# Altium footprint library PcbLibDevices.PcbLib: 21 footprints (part 1 of 2)
Each footprint in its own frame and in the unit in brackets; x right, y up, seen from the top. Pads: shape width x height; smd on the part's side, far side on the other; paste and mask are expansions set on the pad; w line width, h text height; cw(c..) or ccw(c..) is an arc to the next point about the centre after c.
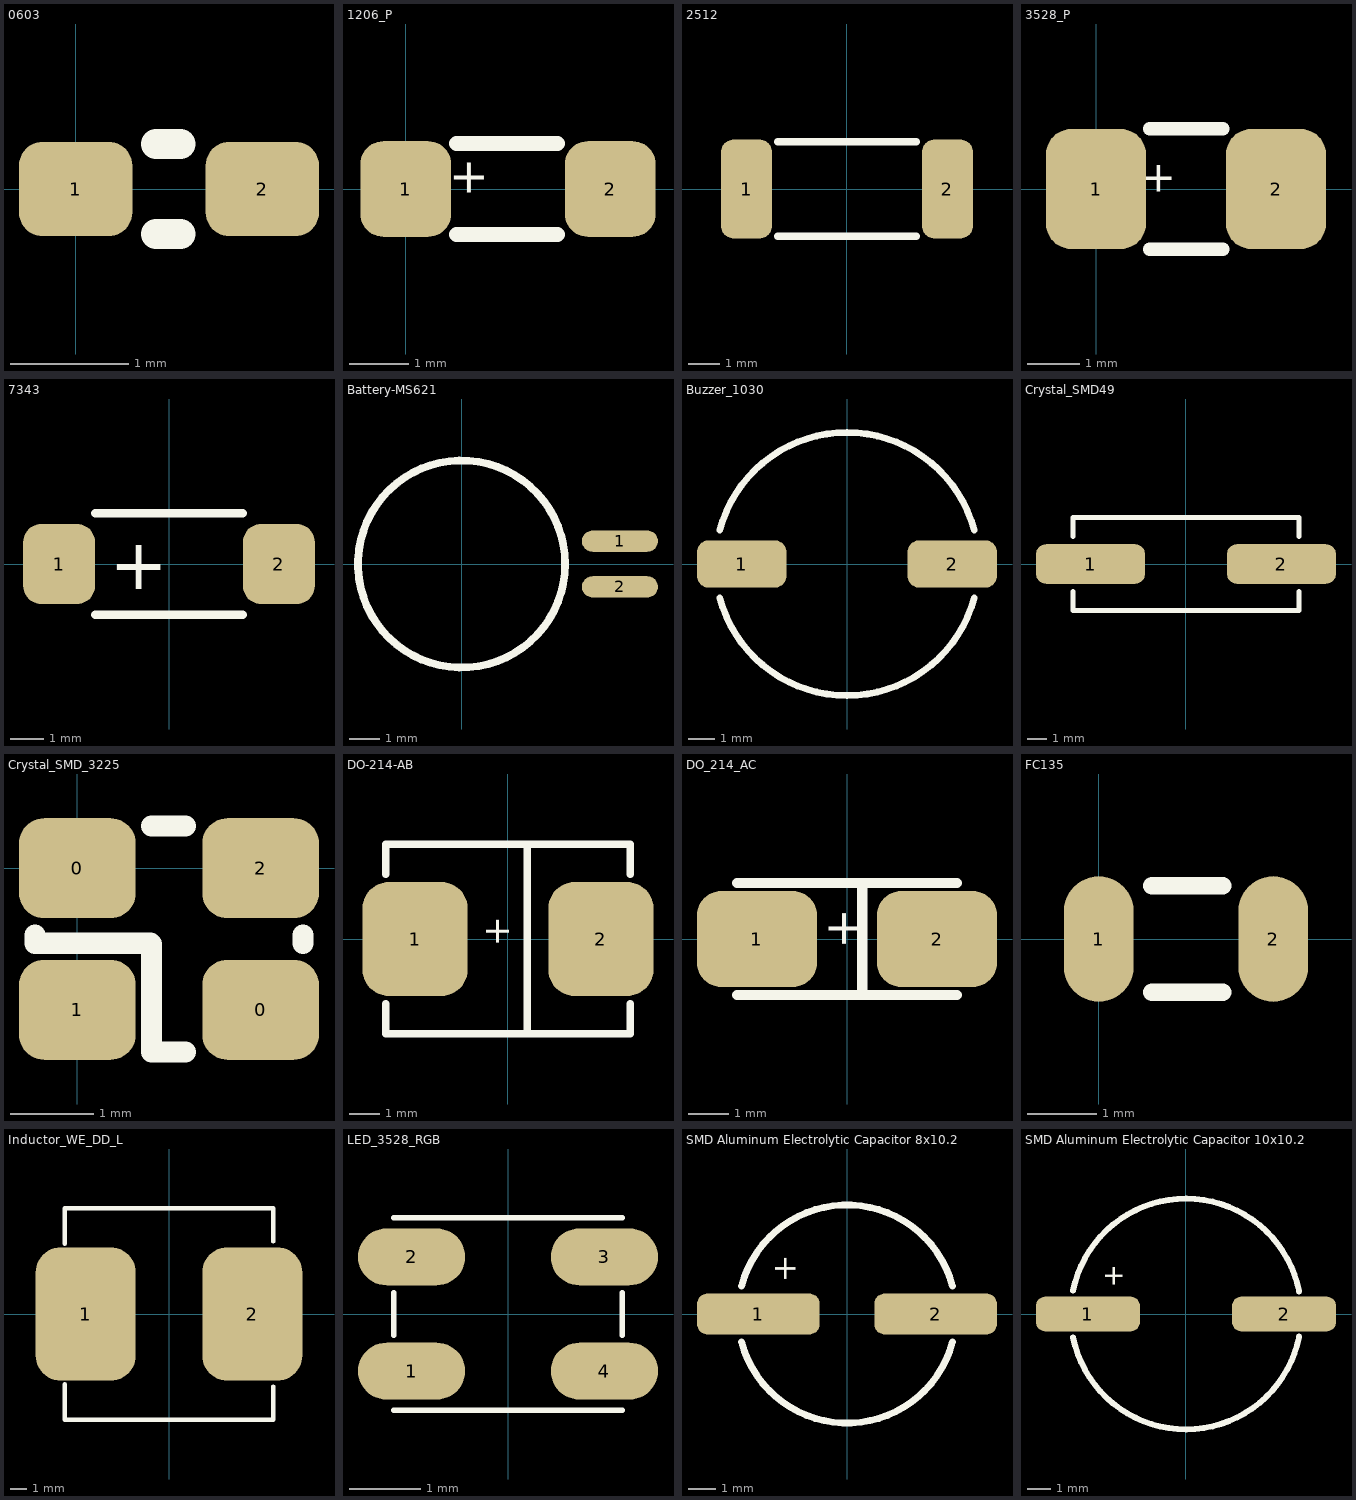
[diagram p0: the footprints below, top view; thin cyan lines are the x and y axes]

## 0603 [mm]
pads (2):
  rrect50% 0.96x0.8 smd: 1(0,0) 2(1.58,0)
Top Overlay:
  lines w0.254: 0.68,-0.381 0.889,-0.381 ; 0.68,0.381 0.889,0.381
3D body: height 1, standoff 0, extent 1.298,-0.381 1.679,0.381
3D body: height 1, standoff 0, extent 0.282,-0.381 1.298,0.381
3D body: height 1, standoff 0, extent -0.099,-0.381 0.282,0.381

## 1206_P [mm]
pads (2):
  rrect50% 1.52x1.6 smd: 1(0,0) 2(3.42,0)
Top Overlay:
  lines w0.254: 0.85,-0.762 2.54,-0.762 ; 0.85,0.762 2.54,0.762
  text "+" at 1.397,-0.254 h1
3D body: height 1.2, standoff 0, extent 0.567,-0.889 2.853,0.889
3D body: height 1.2, standoff 0, extent 0.059,-0.889 0.567,0.889
3D body: height 1.2, standoff 0, extent 2.853,-0.889 3.361,0.889

## 2512 [mm]
pads (2):
  rrect50% 1.65x3.2 smd: 1(-3.24,0) 2(3.24,0)
Top Overlay:
  lines w0.254: -2.224,-1.524 2.221,-1.524 ; -2.224,1.524 2.221,1.524
3D body "CircuitWorks-RESISTOR 2512.step": height 0.58, standoff -0.03, extent -3.175,-1.63 3.175,1.63

## 3528_P [mm]
pads (2):
  rrect50% 1.9x2.28 smd: 1(0,0) 2(3.42,0)
Top Overlay:
  lines w0.254: 1.016,-1.143 2.413,-1.143 ; 1.016,1.143 2.413,1.143
  text "+" at 1.524,-0.254 h1
3D body: height 1.9, standoff 0, extent 0.567,-1.397 2.853,1.397
3D body: height 1.9, standoff 0, extent -0.068,-1.397 0.567,1.397
3D body: height 1.9, standoff 0, extent 2.853,-1.397 3.488,1.397

## 7343 [mm]
pads (2):
  rrect50% 2.16x2.41 smd: 1(-3.305,0) 2(3.305,0)
Top Overlay:
  lines w0.254: -2.224,-1.524 2.221,-1.524 ; -2.224,1.524 2.221,1.524
  text "+" at -1.778,-0.762 h1.52
3D body "User Library-AVX_E_CASE.step": height 4.2, standoff 0, extent -3.7,-2.225 3.7,2.225

## Battery-MS621 [mm]
pads (2):
  oval 2.5x0.7 smd: 1(5.2,0.75) 2(5.2,-0.75)
Top Overlay:
  circle w0.254: c0,0 r3.4
3D body "User Library-ms621fe.STEP": height 2.65, standoff -0.05, extent -3.331,-3.371 5.969,3.429

## Buzzer_1030 [mm]
pads (2):
  rrect50% 3.4x1.8 smd: 1(-4,0) 2(4,0)
Top Overlay:
  lines w0.254: -4.83,-1.294 ccw(c0,0) 4.83,-1.294 ; -4.83,1.294 cw(c0,0) 4.83,1.294
3D body "Buzzer1030.stp": height 3.1, standoff 0, extent -5.539,-4.92 5.461,5.08

## Crystal_SMD49 [mm]
pads (2):
  rrect50% 5.5x2 smd: 1(-4.813,0) 2(4.814,0)
Top Overlay:
  lines w0.254: -5.7,-1.397 -5.7,-2.35 5.7,-2.35 5.7,-1.397 ; -5.7,1.397 -5.7,2.35 5.7,2.35 5.7,1.397
3D body "User Library-Crystal HC49_US-SM.step": height 4.3, standoff 0, extent -6.4,-2.288 6.4,2.542

## Crystal_SMD_3225 [mm]
pads (4):
  rrect50% 1.4x1.2 smd: 0(0,0) 0(2.2,-1.7) 1(0,-1.7) 2(2.2,0)
Top Overlay:
  lines w0.254: -0.508,-0.8 -0.508,-0.9 0.878,-0.9 0.889,-0.911 0.889,-2.208 1.3,-2.208 ; 0.889,0.508 1.3,0.508 ; 2.708,-0.9 2.708,-0.8
3D body "User Library-User Library-Siward_SX3225.STEP": height 0.81, standoff 0, extent -0.457,-2.159 2.743,0.341

## DO-214-AB [mm]
pads (2):
  rrect50% 3.5x3.8 smd: 1(-3.09,0) 2(3.09,0)
Top Overlay:
  lines w0.254: -4.064,-2.159 -4.064,-3.15 ; -4.064,2.159 -4.064,3.15 ; 0.635,-3.048 0.635,3.048 ; 4.064,-2.159 4.064,-3.15 ; 4.064,2.159 4.064,3.15 ; -4.064,-3.15 -4.064,-3.15 ; -4.064,-3.15 4.064,-3.15 ; -4.064,3.15 4.064,3.15 ; -4.064,3.15 -4.064,3.15 ; 4.064,-3.15 4.064,-3.15 ; 4.064,3.15 4.064,3.15
  text "+" at -1.016,-0.254 h1.52
3D body "User Library-DO-214AB(SMC).step": height 2.62, standoff -0.02, extent -4.064,-3.15 4.064,3.15

## DO_214_AC [mm]
pads (2):
  rrect50% 3x2.4 smd: 1(-2.25,0) 2(2.25,0)
Top Overlay:
  lines w0.254: -2.743,-1.397 2.743,-1.397 ; -2.743,1.397 2.743,1.397 ; 0.381,-1.27 0.381,1.27
  text "+" at -0.762,-0.254 h1.52
3D body "User Library-DO-214AC(SMA).step": height 2.29, standoff 0.01, extent -2.743,-1.397 2.743,1.397

## FC135 [mm]
pads (2):
  oval 1x1.8 smd: 1(0,0) 2(2.5,0)
Top Overlay:
  lines w0.254: 0.762,-0.762 1.778,-0.762 ; 0.762,0.762 1.778,0.762
3D body "User Library-FX135A-327.STEP": height 0.9, standoff -0.01, extent -0.33,-0.75 2.87,0.75

## Inductor_WE_DD_L [mm]
pads (2):
  rrect50% 6x8 smd: 1(-5,0) 2(5,0)
Top Overlay:
  lines w0.254: -6.25,-4.218 -6.25,-6.35 6.25,-6.35 6.25,-4.345 ; -6.25,4.218 -6.25,6.35 6.25,6.35 6.25,4.345
3D body "User Library-WE-DD-L.STEP": height 6.7, standoff 0, extent -6.25,-6.25 6.25,6.25

## LED_3528_RGB [mm]
pads (4):
  oval 1.5x0.8 smd: 1(-1.35,-0.8) 2(-1.35,0.8) 3(1.35,0.8) 4(1.35,-0.8)
Top Overlay:
  lines w0.076: -1.6,-1.35 1.6,-1.35 ; -1.6,-0.3 -1.6,0.3 ; -1.6,1.35 1.6,1.35 ; 1.6,-0.3 1.6,0.3
3D body "User Library-KAA-3528.step": height 1.9, standoff 0, extent -1.75,-1.4 1.75,1.4

## SMD Aluminum Electrolytic Capacitor 8x10.2 [mm]
pads (2):
  rrect50% 4.5x1.5 smd: 1(-3.25,0) 2(3.25,0)
Top Overlay:
  lines w0.254: -3.865,-1.031 ccw(c0,0) 3.865,-1.031 ; -3.865,1.031 cw(c0,0) 3.865,1.031
  text "+" at -2.921,1.143 h1.52
3D body "User Library-AL_EL_cap_8mmx10mm.STEP": height 10.3, standoff -0.2, extent -4.852,-4.25 4.848,4.25

## SMD Aluminum Electrolytic Capacitor 10x10.2 [mm]
pads (2):
  rrect50% 4.5x1.5 smd: 1(-4.25,0) 2(4.25,0)
Top Overlay:
  lines w0.254: -4.898,-1.005 ccw(c0,0) 4.903,-0.981 ; -4.898,1.005 cw(c0,0) 4.903,0.981
  text "+" at -3.81,1.143 h1.52
3D body "User Library-cap_10x10x10-1.STEP": height 10.3, standoff -0.2, extent -5.958,-5.293 5.842,5.207